# EAGLE library part LCD_16X2 (library Engine_Stroke)
Display: LCD; alphanumeric; STN Negative; 16x2; blue; LED; PIN: 16 Check availability <https://pricing.snapeda.com/parts/RC1602B-BIW-CSV/Raystar/view-part?ref=eda>
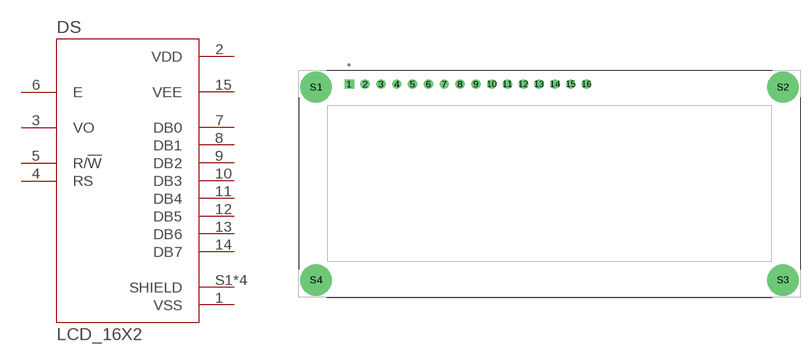
[diagram p1: symbol with the pads of LCD_RC1602B-BIW-CSV; footprint LCD_RC1602B-BIW-CSV]

Designator prefix DS

## LCD_16X2 (AVAILABILITY: Not in stock; DESCRIPTION: Display: LCD; alphanumeric; STN Negative; 16x2; blue; LED; PIN: 16; MF: Raystar; MP: RC1602B-BIW-CSV; PACKAGE: None; PRICE: None)  [LCD_RC1602B-BIW-CSV]
1  VSS  pwr
2  VDD  pwr
3  VO  in
4  RS
5  R/!W
6  E  in
7  DB0
8  DB1
9  DB2
10  DB3
11  DB4
12  DB5
13  DB6
14  DB7
15  VEE  out
S1  SHIELD  pas
S2  SHIELD  pas
S3  SHIELD  pas
S4  SHIELD  pas

## Footprint LCD_RC1602B-BIW-CSV (pad centres in mm)
drill 1 square: 1 -32.14,16
drill 1: 2 -29.6,16; 3 -27.06,16; 4 -24.52,16; 5 -21.98,16; 6 -19.44,16; 7 -16.9,16; 8 -14.36,16; 9 -11.82,16; 10 -9.28,16; 11 -6.74,16; 12 -4.2,16; 13 -1.66,16; 14 0.88,16; 15 3.42,16; 16 5.96,16
drill 2.5 pad 5: S1 -37.5,15.5; S2 37.5,15.5; S3 37.5,-15.5; S4 -37.5,-15.5